# Altium footprint library controls.PcbLib: 3 footprints
Each footprint in its own frame and in the unit in brackets; x right, y up, seen from the top. Pads: shape width x height; smd on the part's side, far side on the other; paste and mask are expansions set on the pad; w line width, h text height; cw(c..) or ccw(c..) is an arc to the next point about the centre after c.
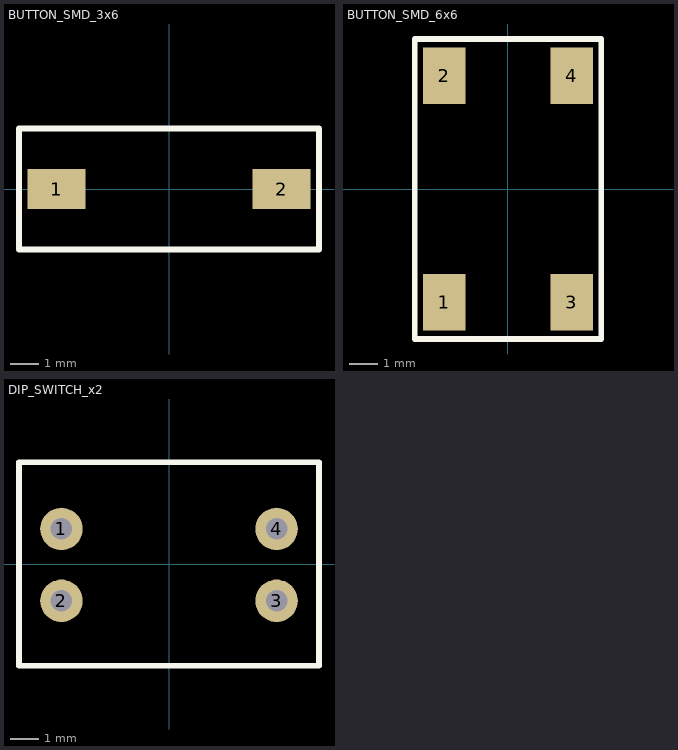
[diagram p0: the footprints below, top view; thin cyan lines are the x and y axes]

## BUTTON_SMD_3x6 [mm]
pads (2):
  rect 2x1.4 smd mask+0.1: 1(-3.9,0) 2(3.9,0)
Top Overlay:
  lines w0.2: -5.2,-2.1 -5.2,2.1 5.2,2.1 5.2,-2.1 -5.2,-2.1
3D body "6x3mm Button.stp": height 2.54, standoff -0.03, extent -3.886,-1.791 3.886,1.791

## BUTTON_SMD_6x6 [mm]
height 5
pads (4):
  rect 1.5x2 smd mask+0.1: 1(-2.25,-4) 2(-2.25,4) 3(2.25,-4) 4(2.25,4)
Top Overlay:
  lines w0.2: -3.3,-5.3 3.3,-5.3 3.3,5.3 -3.3,5.3 -3.3,-5.3
3D body "Tactal Switch - SMD (6mmx 6mmx 4.3mm) - Marked.stp": height 4.3, standoff 0, extent -3.016,-4.508 3.016,4.509

## DIP_SWITCH_x2 [mm]
height 5
pads (4):
  round 1.5 hole 0.762 mask+0.1: 1(-3.8,1.24) 2(-3.8,-1.3) 3(3.8,-1.3) 4(3.8,1.24)
Top Overlay:
  lines w0.2: -5.3,-3.6 5.3,-3.6 5.3,3.6 -5.3,3.6 -5.3,-3.6
3D body "DS1040-02 (DIP_switch).stp": height 6.8, standoff -3.85, extent -4.95,-3.24 4.95,3.3